# Altium integrated library LTV-817.IntLib: 1 symbol
Pins are listed as number, name and electrical type; pins without a type are passive.

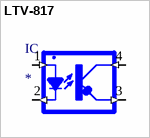
[diagram p0: symbol LTV-817]

## LTV-817
designator IC
Optoisolator Transistor Output 5000Vrms 1 Channel 4-SMD; MF: Lite-On Electronics; MP: LTV-817; SnapEDA_Link: https://www.snapeda.com/parts/LTV-817/ICS/view-part/4478599/?ref=snap; Price: None; Value: *; Availability: Unavailable; Package: DIP-4 Lite-On Electronics
footprint SMD-4
pins: 1 (in), 2 (out), 3 (out), 4 (in)